# EAGLE library part RESISTOR-ARRAY_742C083103JP (library Display-Board_Rack-PDU_2.0)
RES ARRAY 4 RES 10K OHM 1206 Manufacturer's datasheet <https://www.ctscorp.com/wp-content/uploads/74x.pdf>
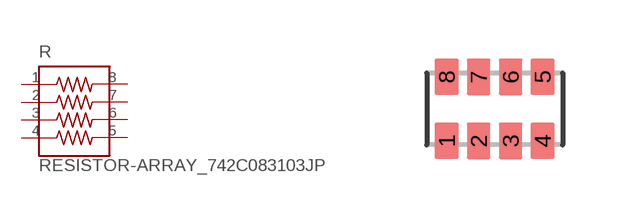
[diagram p0: symbol with the pads of RESISTOR-ARRAY_742C083103JP; footprint RESISTOR-ARRAY_742C083103JP]

Designator prefix R

## RESISTOR-ARRAY_742C083103JP (CREATED_BY: PCBLayout.com; DIGIKEY_PN: 742C083103JPTR-ND; MANUFACTURER: CTS Resistor Products; MPN: 742C083103JP; PACKAGE: 1206)  [RESISTOR-ARRAY_742C083103JP]
1  1  pas
2  2  pas
3  3  pas
4  4  pas
5  5  pas
6  6  pas
7  7  pas
8  8  pas

## Footprint RESISTOR-ARRAY_742C083103JP (pad centres in mm)
smd 0.59 x 0.92: 1 -1.2,-0.8; 2 -0.4,-0.8; 3 0.4,-0.8; 4 1.2,-0.8; 5 1.2,0.8; 6 0.4,0.8; 7 -0.4,0.8; 8 -1.2,0.8